# Altium integrated library refPoint.IntLib: 1 symbol
Pins are listed as number, name and electrical type; pins without a type are passive.

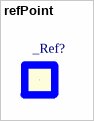
[diagram p0: symbol refPoint]

## refPoint
designator _Ref?  (value not drawn)
footprint refPoint
pins: 0